# EAGLE library part MAX4104 (library 000phys605parts)
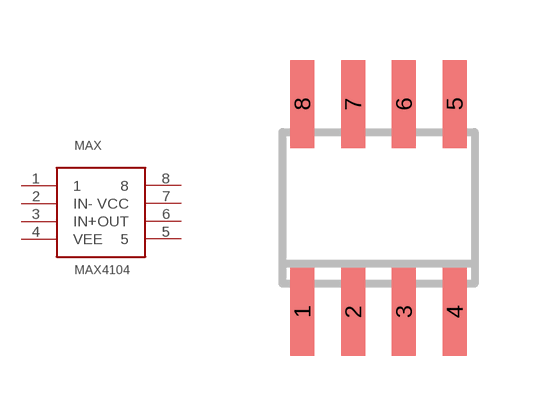
[diagram p3: symbol with the pads of SO8; footprint SO8]

Designator prefix MAX

## MAX4104  [SO8]
1  1  nc
2  IN-  in
3  IN+  in
4  VEE  sup
5  5  nc
6  OUT  out
7  VCC  pwr
8  8  nc

## Footprint SO8 (pad centres in mm)
8-Lead Small Outline IC (SO-8) Source: http://www.analog.com/UploadedFiles/Data_Sheets/703465986AD8611_2_0.pdf
smd 0.6 x 2.2: 1 -1.905,-2.6; 2 -0.635,-2.6; 3 0.635,-2.6; 4 1.905,-2.6; 5 1.905,2.6; 6 0.635,2.6; 7 -0.635,2.6; 8 -1.905,2.6